# Altium footprint library ElectroMechanical.PcbLib: 19 footprints (part 2 of 2)
Each footprint in its own frame and in the unit in brackets; x right, y up, seen from the top. Pads: shape width x height; smd on the part's side, far side on the other; paste and mask are expansions set on the pad; w line width, h text height; cw(c..) or ccw(c..) is an arc to the next point about the centre after c.
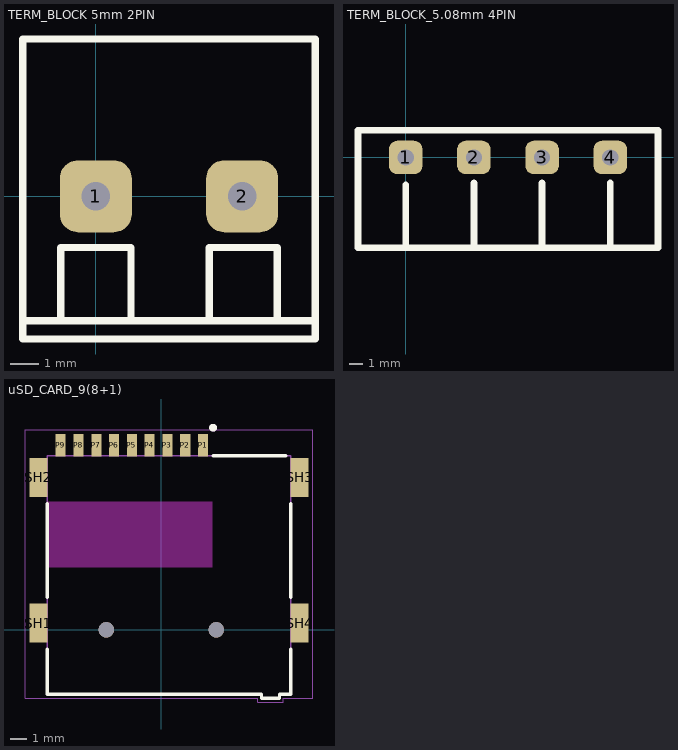
[diagram p1: the footprints below, top view; thin cyan lines are the x and y axes]

## TERM_BLOCK 5mm 2PIN [mm]
pads (2):
  rrect50% 2.5x2.5 hole 1: 1(0,0) 2(5.08,0)
Top Overlay:
  lines w0.254: -2.54,-4.318 7.62,-4.318 ; -1.219,-4.318 -1.219,-1.778 1.219,-1.778 1.219,-4.318 ; 3.937,-4.318 3.937,-1.778 6.299,-1.778 6.299,-4.318 ; -2.54,-4.953 -2.54,0 -2.54,5.461 7.62,5.461 7.62,-4.953 -2.54,-4.953
3D body "User Library-klema-5mm-2pin.step": height 14, standoff -4, extent -2.46,-5.039 7.54,5.461

## TERM_BLOCK_5.08mm 4PIN [mm]
pads (4):
  rrect50% 2.5x2.5 hole 1.2: 1(0,0) 2(5.08,0) 3(10.16,0) 4(15.24,0)
Top Overlay:
  lines w0.5: 0,-6.477 0,-2.032 ; 5.08,-6.731 5.08,-1.905 ; 10.16,-6.604 10.16,-1.905 ; 15.24,-6.731 15.24,-1.905 ; -3.556,-6.731 -3.556,2.032 18.796,2.032 18.796,-6.731 -3.556,-6.731
3D body "User Library-TB5_08-4R.step": height 8.45, standoff -4.2, extent -3.548,-9.992 18.772,2.008

## uSD_CARD_9(8+1) [mm]
pads (15):
  rect 0.62x1.4 smd: P1(2.58,11.42) P2(1.48,11.42) P3(0.38,11.42) P4(-0.72,11.42) P5(-1.82,11.42) P6(-2.92,11.42) P7(-4.02,11.42) P8(-5.12,11.42) P9(-6.22,11.42)
  rect 1.1x2.4 smd: SH1(-7.6,0.42) SH2(-7.6,9.42) SH3(8.55,9.42) SH4(8.55,0.42)
  round 0.95 hole 0.95 unplated: ""(-3.4,0) ""(3.4,0)
Top Overlay:
  circle w0.24: c3.2,12.5 r0.12
  lines w0.2: -7.05,-1.2 -7.05,-3.98 6.2,-3.98 6.2,-4.23 7.3,-4.23 7.3,-3.98 8,-3.98 8,-1.2 ; -7.05,2 -7.05,7.8 ; 3.2,10.77 7.7,10.77 ; 8,2 8,7.8
Keep-Out Layer:
  region: 3.15,3.87 -7.05,3.87 -7.05,7.92 3.15,7.92
Mechanical 13:
  circle w0.24: c3.2,12.5 r0.12
  lines w0.1: -7.05,-3.98 -7.05,10.77 8,10.77 8,-3.98 7.3,-3.98 7.3,-4.23 6.2,-4.23 6.2,-3.98 -7.05,-3.98
Mechanical 15:
  lines w0.05: -8.4,-4.23 5.95,-4.23 5.95,-4.48 7.55,-4.48 7.55,-4.23 9.35,-4.23 9.35,12.37 -8.4,12.37 -8.4,-4.23
3D body "step_temp.STEP": height 1.45, standoff -0.6, extent -7.74,-4.25 8.7,11.6